# Altium integrated library WE-CBF (rev24a).IntLib: 180 symbols (part 4 of 4)
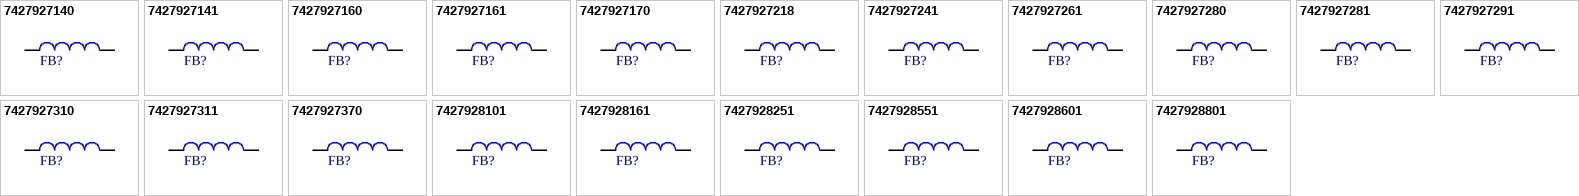
[diagram p7: symbols 7427927140 to 7427928801]

## 7427927160
designator FB?, comment 60Ohm  (value not drawn)
WE-CBF SMT EMI Suppression Ferrite Bead, size 0402, 60Ohm, 0.85A; Manufacturer Part Number: 7427927160; Manufacturer: Wurth Elektronik; Case/Size Code: 0402; DC Resistance Max: 0.3Ohm; Impedance Max: 450Ohm; Impedance Max Test Condition: 800MHz; Type: High Speed; Category: Ferrites for PCB Assembly; Match Code: WE-CBF; ComponentLink1Description: Website Link; ComponentLink1URL: https://www.we-online.com/redexpert/article/7427927160?ad; ComponentLink2Description: Datasheet Link; ComponentLink2URL: https://www.we-online.com/redexpert/spec/7427927160?ad; Mount: Surface Mount; Operating Temperature Max: 125°C; Operating Temperature Min: -55°C; Packaging: Tape and Reel; Length: 1mm; Width: 0.5mm; Height: 0.5mm; Impedance @100MHz: 60Ohm; Rated Current: 0.85A
footprint WE-CBF_0402_L1W0.5H0.5_HS/WB
simulation model 0402_7427927160_60ohm
pins: 1, 2

## 7427927161
designator FB?, comment 600Ohm  (value not drawn)
WE-CBF SMT EMI Suppression Ferrite Bead, size 0402, 600Ohm, 0.51A; Manufacturer Part Number: 7427927161; Manufacturer: Wurth Elektronik; Case/Size Code: 0402; DC Resistance Max: 0.56Ohm; Impedance Max: 1300Ohm; Impedance Max Test Condition: 300MHz; Type: High Speed; Category: Ferrites for PCB Assembly; Match Code: WE-CBF; ComponentLink1Description: Website Link; ComponentLink1URL: https://www.we-online.com/redexpert/article/7427927161?ad; ComponentLink2Description: Datasheet Link; ComponentLink2URL: https://www.we-online.com/redexpert/spec/7427927161?ad; Mount: Surface Mount; Operating Temperature Max: 125°C; Operating Temperature Min: -55°C; Packaging: Tape and Reel; Length: 1mm; Width: 0.5mm; Height: 0.5mm; Impedance @100MHz: 600Ohm; Rated Current: 0.51A
footprint WE-CBF_0402_L1W0.5H0.5_HS/WB
simulation model 0402_7427927161_600ohm
pins: 1, 2

## 7427927170
designator FB?, comment 75Ohm  (value not drawn)
WE-CBF SMT EMI Suppression Ferrite Bead, size 0402, 75Ohm, 0.65A; Manufacturer Part Number: 7427927170; Manufacturer: Wurth Elektronik; Case/Size Code: 0402; DC Resistance Max: 0.31Ohm; Impedance Max: 400Ohm; Impedance Max Test Condition: 800MHz; Type: High Speed; Category: Ferrites for PCB Assembly; Match Code: WE-CBF; ComponentLink1Description: Website Link; ComponentLink1URL: https://www.we-online.com/redexpert/article/7427927170?ad; ComponentLink2Description: Datasheet Link; ComponentLink2URL: https://www.we-online.com/redexpert/spec/7427927170?ad; Mount: Surface Mount; Operating Temperature Max: 125°C; Operating Temperature Min: -55°C; Packaging: Tape and Reel; Length: 1mm; Width: 0.5mm; Height: 0.5mm; Impedance @100MHz: 75Ohm; Rated Current: 0.65A
footprint WE-CBF_0402_L1W0.5H0.5_HS/WB
simulation model 0402_7427927170_75ohm
pins: 1, 2

## 7427927218
designator FB?, comment 180Ohm  (value not drawn)
WE-CBF SMT EMI Suppression Ferrite Bead, size 0402, 180Ohm, 0.9A; Manufacturer Part Number: 7427927218; Manufacturer: Wurth Elektronik; Case/Size Code: 0402; DC Resistance Max: 0.3Ohm; Impedance Max: 260Ohm; Impedance Max Test Condition: 500MHz; Type: Wide Band; Category: Ferrites for PCB Assembly; Match Code: WE-CBF; ComponentLink1Description: Website Link; ComponentLink1URL: https://www.we-online.com/redexpert/article/7427927218?ad; ComponentLink2Description: Datasheet Link; ComponentLink2URL: https://www.we-online.com/redexpert/spec/7427927218?ad; Mount: Surface Mount; Operating Temperature Max: 125°C; Operating Temperature Min: -55°C; Packaging: Tape and Reel; Length: 1mm; Width: 0.5mm; Height: 0.5mm; Impedance @100MHz: 180Ohm; Rated Current: 0.9A
footprint WE-CBF_0402_L1W0.5H0.5_HS/WB
simulation model 0402_7427927218_180ohm
pins: 1, 2

## 7427927241
designator FB?, comment 470Ohm  (value not drawn)
WE-CBF SMT EMI Suppression Ferrite Bead, size 0402, 470Ohm, 0.55A; Manufacturer Part Number: 7427927241; Manufacturer: Wurth Elektronik; Case/Size Code: 0402; DC Resistance Max: 0.65Ohm; Impedance Max: 600Ohm; Impedance Max Test Condition: 300MHz; Type: Wide Band; Category: Ferrites for PCB Assembly; Match Code: WE-CBF; ComponentLink1Description: Website Link; ComponentLink1URL: https://www.we-online.com/redexpert/article/7427927241?ad; ComponentLink2Description: Datasheet Link; ComponentLink2URL: https://www.we-online.com/redexpert/spec/7427927241?ad; Mount: Surface Mount; Operating Temperature Max: 125°C; Operating Temperature Min: -55°C; Packaging: Tape and Reel; Length: 1mm; Width: 0.5mm; Height: 0.5mm; Impedance @100MHz: 470Ohm; Rated Current: 0.55A
footprint WE-CBF_0402_L1W0.5H0.5_HS/WB
simulation model 0402_7427927241_470ohm
pins: 1, 2

## 7427927261
designator FB?, comment 600Ohm  (value not drawn)
WE-CBF SMT EMI Suppression Ferrite Bead, size 0402, 600Ohm, 0.55A; Manufacturer Part Number: 7427927261; Manufacturer: Wurth Elektronik; Case/Size Code: 0402; DC Resistance Max: 0.6Ohm; Impedance Max: 780Ohm; Impedance Max Test Condition: 250MHz; Type: Wide Band; Category: Ferrites for PCB Assembly; Match Code: WE-CBF; ComponentLink1Description: Website Link; ComponentLink1URL: https://www.we-online.com/redexpert/article/7427927261?ad; ComponentLink2Description: Datasheet Link; ComponentLink2URL: https://www.we-online.com/redexpert/spec/7427927261?ad; Mount: Surface Mount; Operating Temperature Max: 125°C; Operating Temperature Min: -55°C; Packaging: Tape and Reel; Length: 1mm; Width: 0.5mm; Height: 0.5mm; Impedance @100MHz: 600Ohm; Rated Current: 0.55A
footprint WE-CBF_0402_L1W0.5H0.5_HS/WB
simulation model 0402_7427927261_600ohm
pins: 1, 2

## 7427927280
designator FB?, comment 80Ohm  (value not drawn)
WE-CBF SMT EMI Suppression Ferrite Bead, size 0402, 80Ohm, 0.85A; Manufacturer Part Number: 7427927280; Manufacturer: Wurth Elektronik; Case/Size Code: 0402; DC Resistance Max: 0.25Ohm; Impedance Max: 140Ohm; Impedance Max Test Condition: 800MHz; Type: Wide Band; Category: Ferrites for PCB Assembly; Match Code: WE-CBF; ComponentLink1Description: Website Link; ComponentLink1URL: https://www.we-online.com/redexpert/article/7427927280?ad; ComponentLink2Description: Datasheet Link; ComponentLink2URL: https://www.we-online.com/redexpert/spec/7427927280?ad; Mount: Surface Mount; Operating Temperature Max: 125°C; Operating Temperature Min: -55°C; Packaging: Tape and Reel; Length: 1mm; Width: 0.5mm; Height: 0.5mm; Impedance @100MHz: 80Ohm; Rated Current: 0.85A
footprint WE-CBF_0402_L1W0.5H0.5_HS/WB
simulation model 0402_7427927280_80ohm
pins: 1, 2

## 7427927281
designator FB?, comment 800Ohm  (value not drawn)
WE-CBF SMT EMI Suppression Ferrite Bead, size 0402, 800Ohm, 0.5A; Manufacturer Part Number: 7427927281; Manufacturer: Wurth Elektronik; Case/Size Code: 0402; DC Resistance Max: 0.8Ohm; Impedance Max: 1000Ohm; Impedance Max Test Condition: 200MHz; Type: Wide Band; Category: Ferrites for PCB Assembly; Match Code: WE-CBF; ComponentLink1Description: Website Link; ComponentLink1URL: https://www.we-online.com/redexpert/article/7427927281?ad; ComponentLink2Description: Datasheet Link; ComponentLink2URL: https://www.we-online.com/redexpert/spec/7427927281?ad; Mount: Surface Mount; Operating Temperature Max: 125°C; Operating Temperature Min: -55°C; Packaging: Tape and Reel; Length: 1mm; Width: 0.5mm; Height: 0.5mm; Impedance @100MHz: 800Ohm; Rated Current: 0.5A
footprint WE-CBF_0402_L1W0.5H0.5_HS/WB
simulation model 0402_7427927281_800ohm
pins: 1, 2

## 7427927291
designator FB?, comment 600Ohm  (value not drawn)
WE-CBF SMT EMI Suppression Ferrite Bead, size 0402, 600Ohm, 0.51A; Manufacturer Part Number: 7427927291; Manufacturer: Wurth Elektronik; Case/Size Code: 0402; DC Resistance Max: 0.6Ohm; Impedance Max: 900Ohm; Impedance Max Test Condition: 250MHz; Type: Wide Band; Category: Ferrites for PCB Assembly; Match Code: WE-CBF; ComponentLink1Description: Website Link; ComponentLink1URL: https://www.we-online.com/redexpert/article/7427927291?ad; ComponentLink2Description: Datasheet Link; ComponentLink2URL: https://www.we-online.com/redexpert/spec/7427927291?ad; Mount: Surface Mount; Operating Temperature Max: 125°C; Operating Temperature Min: -55°C; Packaging: Tape and Reel; Length: 1mm; Width: 0.5mm; Height: 0.5mm; Impedance @100MHz: 600Ohm; Rated Current: 0.51A
footprint WE-CBF_0402_L1W0.5H0.5_HS/WB
simulation model 0402_7427927291_600ohm
pins: 1, 2

## 7427927310
designator FB?, comment 10Ohm  (value not drawn)
WE-CBF SMT EMI Suppression Ferrite Bead, size 0402, 10Ohm, 2A; Manufacturer Part Number: 7427927310; Manufacturer: Wurth Elektronik; Case/Size Code: 0402; DC Resistance Max: 0.03Ohm; Impedance Max: 15Ohm; Impedance Max Test Condition: 800MHz; Type: High Current; Category: Ferrites for PCB Assembly; Match Code: WE-CBF; ComponentLink1Description: Website Link; ComponentLink1URL: https://www.we-online.com/redexpert/article/7427927310?ad; ComponentLink2Description: Datasheet Link; ComponentLink2URL: https://www.we-online.com/redexpert/spec/7427927310?ad; Mount: Surface Mount; Operating Temperature Max: 125°C; Operating Temperature Min: -55°C; Packaging: Tape and Reel; Length: 1mm; Width: 0.5mm; Height: 0.5mm; Impedance @100MHz: 10Ohm; Rated Current: 2A
footprint WE-CBF_0402_L1W0.5H0.5_HC
simulation model 0402_7427927310_10ohm
pins: 1, 2

## 7427927311
designator FB?, comment 120Ohm  (value not drawn)
WE-CBF SMT EMI Suppression Ferrite Bead, size 0402, 120Ohm, 1.2A; Manufacturer Part Number: 7427927311; Manufacturer: Wurth Elektronik; Case/Size Code: 0402; DC Resistance Max: 0.09Ohm; Impedance Max: 200Ohm; Impedance Max Test Condition: 450MHz; Type: High Current; Category: Ferrites for PCB Assembly; Match Code: WE-CBF; ComponentLink1Description: Website Link; ComponentLink1URL: https://www.we-online.com/redexpert/article/7427927311?ad; ComponentLink2Description: Datasheet Link; ComponentLink2URL: https://www.we-online.com/redexpert/spec/7427927311?ad; Mount: Surface Mount; Operating Temperature Max: 125°C; Operating Temperature Min: -55°C; Packaging: Tape and Reel; Length: 1mm; Width: 0.5mm; Height: 0.5mm; Impedance @100MHz: 120Ohm; Rated Current: 1.2A
footprint WE-CBF_0402_L1W0.5H0.5_HC
simulation model 0402_7427927311_120ohm
pins: 1, 2

## 7427927370
designator FB?, comment 70Ohm  (value not drawn)
WE-CBF SMT EMI Suppression Ferrite Bead, size 0402, 70Ohm, 1.2A; Manufacturer Part Number: 7427927370; Manufacturer: Wurth Elektronik; Case/Size Code: 0402; DC Resistance Max: 0.09Ohm; Impedance Max: 140Ohm; Impedance Max Test Condition: 600MHz; Type: High Current; Category: Ferrites for PCB Assembly; Match Code: WE-CBF; ComponentLink1Description: Website Link; ComponentLink1URL: https://www.we-online.com/redexpert/article/7427927370?ad; ComponentLink2Description: Datasheet Link; ComponentLink2URL: https://www.we-online.com/redexpert/spec/7427927370?ad; Mount: Surface Mount; Operating Temperature Max: 125°C; Operating Temperature Min: -55°C; Packaging: Tape and Reel; Length: 1mm; Width: 0.5mm; Height: 0.5mm; Impedance @100MHz: 70Ohm; Rated Current: 1.2A
footprint WE-CBF_0402_L1W0.5H0.5_HC
simulation model 0402_7427927370_70ohm
pins: 1, 2

## 7427928101
designator FB?, comment 100Ohm  (value not drawn)
WE-CBF SMT EMI Suppression Ferrite Bead, size 2220, 100Ohm, 7A; Manufacturer Part Number: 7427928101; Manufacturer: Wurth Elektronik; Case/Size Code: 2220; DC Resistance Max: 0.005Ohm; Impedance Max: 170Ohm; Impedance Max Test Condition: 880MHz; Type: High Current; Category: Ferrites for PCB Assembly; Match Code: WE-CBF; ComponentLink1Description: Website Link; ComponentLink1URL: https://www.we-online.com/redexpert/article/7427928101?ad; ComponentLink2Description: Datasheet Link; ComponentLink2URL: https://www.we-online.com/redexpert/spec/7427928101?ad; Mount: Surface Mount; Operating Temperature Max: 125°C; Operating Temperature Min: -55°C; Packaging: Tape and Reel; Length: 5.6mm; Width: 5.1mm; Height: 1.8mm; Impedance @100MHz: 100Ohm; Rated Current: 7A
footprint WE-CBF_2220_L5.6W5.1H1.8_HC
simulation model 2220_7427928101_100Ohm
pins: 1, 2

## 7427928161
designator FB?, comment 160Ohm  (value not drawn)
WE-CBF SMT EMI Suppression Ferrite Bead, size 2220, 160Ohm, 5A; Manufacturer Part Number: 7427928161; Manufacturer: Wurth Elektronik; Case/Size Code: 2220; DC Resistance Max: 0.01Ohm; Impedance Max: 240Ohm; Impedance Max Test Condition: 610MHz; Type: High Current; Category: Ferrites for PCB Assembly; Match Code: WE-CBF; ComponentLink1Description: Website Link; ComponentLink1URL: https://www.we-online.com/redexpert/article/7427928161?ad; ComponentLink2Description: Datasheet Link; ComponentLink2URL: https://www.we-online.com/redexpert/spec/7427928161?ad; Mount: Surface Mount; Operating Temperature Max: 125°C; Operating Temperature Min: -55°C; Packaging: Tape and Reel; Length: 5.6mm; Width: 5.1mm; Height: 1.8mm; Impedance @100MHz: 160Ohm; Rated Current: 5A
footprint WE-CBF_2220_L5.6W5.1H1.8_HC
simulation model 2220_7427928161_160Ohm
pins: 1, 2

## 7427928251
designator FB?, comment 250Ohm  (value not drawn)
WE-CBF SMT EMI Suppression Ferrite Bead, size 2220, 250Ohm, 4A; Manufacturer Part Number: 7427928251; Manufacturer: Wurth Elektronik; Case/Size Code: 2220; DC Resistance Max: 0.012Ohm; Impedance Max: 300Ohm; Impedance Max Test Condition: 185MHz; Type: High Current; Category: Ferrites for PCB Assembly; Match Code: WE-CBF; ComponentLink1Description: Website Link; ComponentLink1URL: https://www.we-online.com/redexpert/article/7427928251?ad; ComponentLink2Description: Datasheet Link; ComponentLink2URL: https://www.we-online.com/redexpert/spec/7427928251?ad; Mount: Surface Mount; Operating Temperature Max: 125°C; Operating Temperature Min: -55°C; Packaging: Tape and Reel; Length: 5.6mm; Width: 5.1mm; Height: 1.8mm; Impedance @100MHz: 250Ohm; Rated Current: 4A
footprint WE-CBF_2220_L5.6W5.1H1.8_HC
simulation model 2220_7427928251_250Ohm
pins: 1, 2

## 7427928551
designator FB?, comment 550Ohm  (value not drawn)
WE-CBF SMT EMI Suppression Ferrite Bead, size 2220, 550Ohm, 4A; Manufacturer Part Number: 7427928551; Manufacturer: Wurth Elektronik; Case/Size Code: 2220; DC Resistance Max: 0.035Ohm; Impedance Max: 720Ohm; Impedance Max Test Condition: 300MHz; Type: High Current; Category: Ferrites for PCB Assembly; Match Code: WE-CBF; ComponentLink1Description: Website Link; ComponentLink1URL: https://www.we-online.com/redexpert/article/7427928551?ad; ComponentLink2Description: Datasheet Link; ComponentLink2URL: https://www.we-online.com/redexpert/spec/7427928551?ad; Mount: Surface Mount; Operating Temperature Max: 125°C; Operating Temperature Min: -55°C; Packaging: Tape and Reel; Length: 5.6mm; Width: 5.1mm; Height: 2mm; Impedance @100MHz: 550Ohm; Rated Current: 4A
footprint WE-CBF_2220_L5.6W5.1H2_HC
simulation model 2220_7427928551_500Ohm
pins: 1, 2

## 7427928601
designator FB?, comment 600Ohm  (value not drawn)
WE-CBF SMT EMI Suppression Ferrite Bead, size 2220, 600Ohm, 4A; Manufacturer Part Number: 7427928601; Manufacturer: Wurth Elektronik; Case/Size Code: 2220; DC Resistance Max: 0.025Ohm; Impedance Max: 620Ohm; Impedance Max Test Condition: 125MHz; Type: High Current; Category: Ferrites for PCB Assembly; Match Code: WE-CBF; ComponentLink1Description: Website Link; ComponentLink1URL: https://www.we-online.com/redexpert/article/7427928601?ad; ComponentLink2Description: Datasheet Link; ComponentLink2URL: https://www.we-online.com/redexpert/spec/7427928601?ad; Mount: Surface Mount; Operating Temperature Max: 125°C; Operating Temperature Min: -55°C; Packaging: Tape and Reel; Length: 5.6mm; Width: 5.1mm; Height: 3mm; Impedance @100MHz: 600Ohm; Rated Current: 4A
footprint WE-CBF_2220_L5.6W5.1H3_HC
simulation model 2220_7427928601_600Ohm
pins: 1, 2

## 7427928801
designator FB?, comment 800Ohm  (value not drawn)
WE-CBF SMT EMI Suppression Ferrite Bead, size 2220, 800Ohm, 8A; Manufacturer Part Number: 7427928801; Manufacturer: Wurth Elektronik; Case/Size Code: 2220; DC Resistance Max: 0.01Ohm; Impedance Max: 880Ohm; Impedance Max Test Condition: 103MHz; Type: High Current; Category: Ferrites for PCB Assembly; Match Code: WE-CBF; ComponentLink1Description: Website Link; ComponentLink1URL: https://www.we-online.com/redexpert/article/7427928801?ad; ComponentLink2Description: Datasheet Link; ComponentLink2URL: https://www.we-online.com/redexpert/spec/7427928801?ad; Mount: Surface Mount; Operating Temperature Max: 125°C; Operating Temperature Min: -55°C; Packaging: Tape and Reel; Length: 5.6mm; Width: 5.1mm; Height: 3.6mm; Impedance @100MHz: 800Ohm; Rated Current: 8A
footprint WE-CBF_2220_L5.6W5.1H3.6_HC
simulation model 2220_7427928801_800Ohm
pins: 1, 2